# Altium schematic symbol library TexasInstruments.SchLib: 4 symbols
Pins are listed as number, name and electrical type; pins without a type are passive.

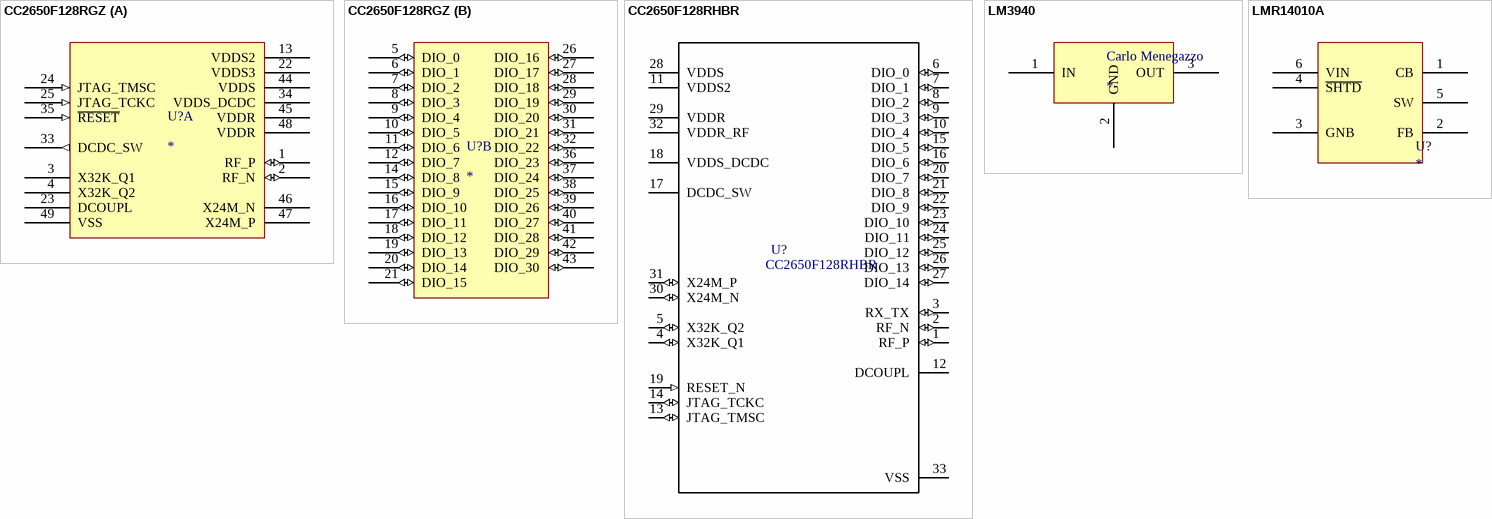
[diagram p0: symbols CC2650F128RGZ to LMR14010A]

## CC2650F128RGZ
designator U?
The CC2650 device is a wireless MCU targeting Bluetooth, ZigBee® and 6LoWPAN, and ZigBee RF4CE / remote control applications.; ComponentLink1Description: Datasheet; ComponentLink1URL: http://www.ti.com/product/CC2650
part A pins: 1 RF_P (io), 2 RF_N (io), 3 X32K_Q1, 4 X32K_Q2, 13 VDDS2 (power), 22 VDDS3 (power), 23 DCOUPL, 24 JTAG_TMSC (in), 25 JTAG_TCKC (in), 33 DCDC_SW (out), 34 VDDS_DCDC (power), 35 ~{RESET} (in), 44 VDDS (power), 45 VDDR (power), 46 X24M_N, 47 X24M_P, 48 VDDR (power), 49 VSS (power) "Ground"
part B pins: 5 DIO_0 (io), 6 DIO_1 (io), 7 DIO_2 (io), 8 DIO_3 (io), 9 DIO_4 (io), 10 DIO_5 (io), 11 DIO_6 (io), 12 DIO_7 (io), 14 DIO_8 (io), 15 DIO_9 (io), 16 DIO_10 (io), 17 DIO_11 (io), 18 DIO_12 (io), 19 DIO_13 (io), 20 DIO_14 (io), 21 DIO_15 (io), 26 DIO_16 (io), 27 DIO_17 (io), 28 DIO_18 (io), 29 DIO_19 (io), 30 DIO_20 (io), 31 DIO_21 (io), 32 DIO_22 (io), 36 DIO_23 (io), 37 DIO_24 (io), 38 DIO_25 (io), 39 DIO_26 (io), 40 DIO_27 (io), 41 DIO_28 (io), 42 DIO_29 (io), 43 DIO_30 (io)

## CC2650F128RHBR
designator U?
MCU 32-bit CC26xx ARM Cortex M3 RISC 128KB Flash 2.5V/3.3V Medical 32-Pin VQFN EP T/R; MF: Texas Instruments; Price: None; SnapEDA_Link: https://www.snapeda.com/parts/CC2650F128RHBR/Texas%20Instruments/view-part/?ref=snap; Package: VQFN-32 Texas Instruments; Availability: Unavailable; MP: CC2650F128RHBR; Value: *
footprint VQFN-32(RHB-vias) (VQFN-32 + gnd pad, easy solderable, imported SnapEDA)
pins: 1 RF_P (io), 2 RF_N (io), 3 RX_TX (io), 4 X32K_Q1 (io), 5 X32K_Q2 (io), 6 DIO_0 (io), 7 DIO_1 (io), 8 DIO_2 (io), 9 DIO_3 (io), 10 DIO_4 (io), 11 VDDS2 (power), 12 DCOUPL (power), 13 JTAG_TMSC (io), 14 JTAG_TCKC (io), 15 DIO_5 (io), 16 DIO_6 (io), 17 DCDC_SW (power), 18 VDDS_DCDC (power), 19 RESET_N (in), 20 DIO_7 (io), 21 DIO_8 (io), 22 DIO_9 (io), 23 DIO_10 (io), 24 DIO_11 (io), 25 DIO_12 (io), 26 DIO_13 (io), 27 DIO_14 (io), 28 VDDS (power), 29 VDDR (power), 30 X24M_N (io), 31 X24M_P (io), 32 VDDR_RF (power), 33 VSS (power)

## LM3940
designator Carlo Menegazzo
3 Description / The LM3940 is a 1-A low-dropout regulator designed / to provide 3.3 V from a 5-V supply.; ComponentLink1Description: Datasheet; ComponentLink1URL: http://www.ti.com/lit/ds/symlink/lm3940.pdf
pins: 1 IN (power) "Input voltage supply. A 0.47-µF capacitor should be connected", 2 GND (power) "Ground", 3 OUT (power) "Output voltage. A 33-µF low ESR capacitor should be"

## LMR14010A
designator U?
LMR14010A 4-V to 40-V, 1-A Step-Down Converter With High Efficiency Eco-mode; ComponentLink1Description: Datasheet; ComponentLink1URL: http://www.ti.com/lit/ds/symlink/lmr14010a.pdf
footprint SOT23-6_L (Footprint not found)
pins: 1 CB "SW FET gate bias voltage. Connect Cboot capacitor between CB and SW.", 2 FB "Feedback Pin. Set feedback voltage divider ratio with VOUT = VFB (1+(R1/R2)).", 3 GNB "Ground connection.", 4 ~{SHTD} "Enable and disable input pin(high voltage tolerant). Internal pull-up current source. Pull below 1.25 V to disable. Float to enable. Adjust the input undervoltage lockout with two resistors", 5 SW "Switch node. Connect to inductor, diode and Cboot capacitor.", 6 VIN "Power input voltage pin. Input for internal supply and drain node input for internal high-side MOSFET."